# Altium integrated library Lattice FPGA MachXO2.IntLib: 444 symbols (part 6 of 39)
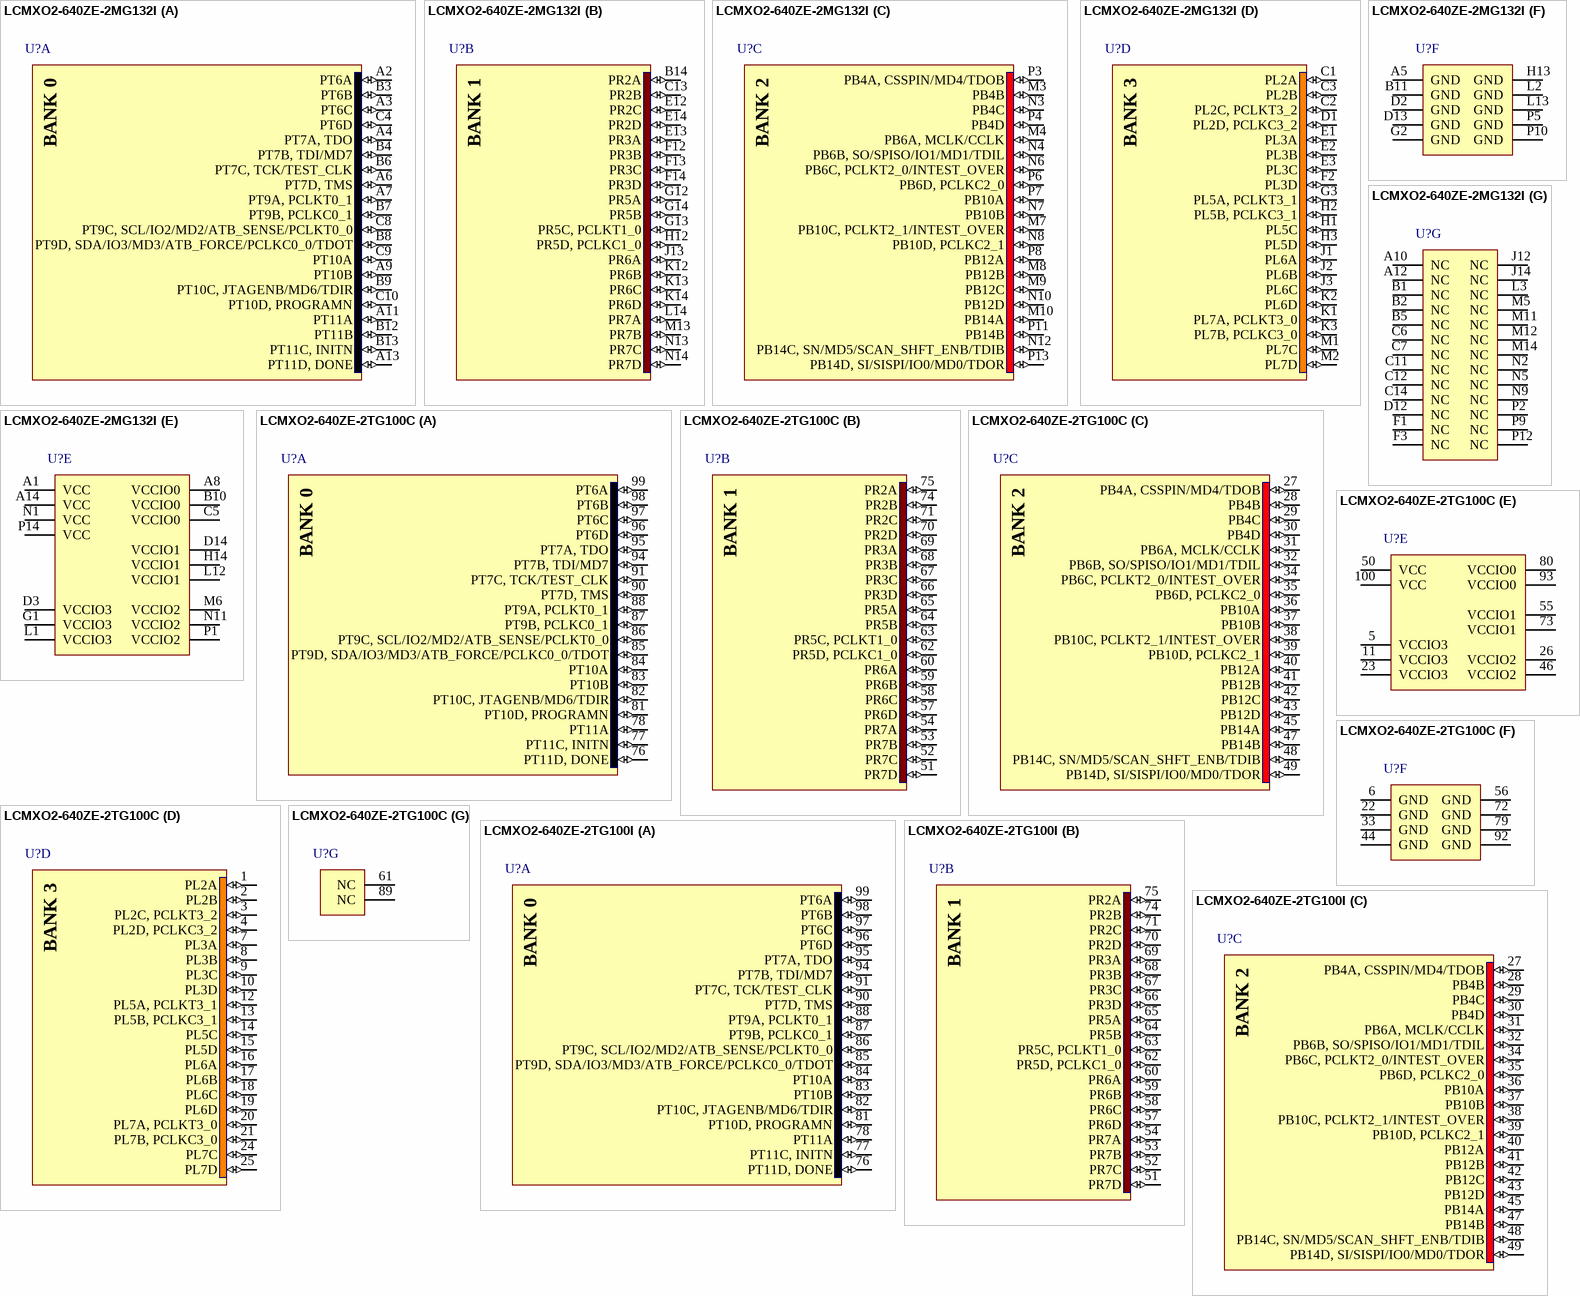
[diagram p426: symbols LCMXO2-640ZE-2MG132I to LCMXO2-640ZE-2TG100I]

## LCMXO2-640ZE-2TG100C
designator U?
MachXO2 Ultra Low Power CPLD with 640 LUTs, 1.2V, 100-pin TQFP, Speed Grade-2, Commercial Grade, Halogen Free (RoHS); DatasheetVersion: ver01.5, Aug-2011; PackageVersion: ver02.8, Jul-2011; PackageReference: TQFP100; PackageDescription: 100-Pin Thin Quad Flat Pack (TQFP100); Code_JEDEC: MS-026-BED; ComponentLink1Description: Manufacturer URL; ComponentLink1URL: http://www.latticesemi.com/; ComponentLink2Description: Datasheet; ComponentLink2URL: http://www.latticesemi.com/documents/DS1035.pdf; ComponentLink3Description: Package Specification; ComponentLink3URL: http://www.latticesemi.com/lit/docs/package/pkg.pdf
footprint TQFP100_N (Thin QFP, 100-Leads, Body 14x14mm, Pitch 0.5mm, IPC Medium Density)
footprint TQFP100_L (Thin QFP, 100-Leads, Body 14x14mm, Pitch 0.5mm, IPC High Density)
footprint TQFP100_M (Thin QFP, 100-Leads, Body 14x14mm, Pitch 0.5mm, IPC Low Density)
part A pins: 76 PT11D, DONE (io), 77 PT11C, INITN (io), 78 PT11A (io), 81 PT10D, PROGRAMN (io), 82 PT10C, JTAGENB/MD6/TDIR (io), 83 PT10B (io), 84 PT10A (io), 85 PT9D, SDA/IO3/MD3/ATB_FORCE/PCLKC0_0/TDOT (io), 86 PT9C, SCL/IO2/MD2/ATB_SENSE/PCLKT0_0 (io), 87 PT9B, PCLKC0_1 (io), 88 PT9A, PCLKT0_1 (io), 90 PT7D, TMS (io), 91 PT7C, TCK/TEST_CLK (io), 94 PT7B, TDI/MD7 (io), 95 PT7A, TDO (io), 96 PT6D (io), 97 PT6C (io), 98 PT6B (io), 99 PT6A (io)
part B pins: 51 PR7D (io), 52 PR7C (io), 53 PR7B (io), 54 PR7A (io), 57 PR6D (io), 58 PR6C (io), 59 PR6B (io), 60 PR6A (io), 62 PR5D, PCLKC1_0 (io), 63 PR5C, PCLKT1_0 (io), 64 PR5B (io), 65 PR5A (io), 66 PR3D (io), 67 PR3C (io), 68 PR3B (io), 69 PR3A (io), 70 PR2D (io), 71 PR2C (io), 74 PR2B (io), 75 PR2A (io)
part C pins: 27 PB4A, CSSPIN/MD4/TDOB (io), 28 PB4B (io), 29 PB4C (io), 30 PB4D (io), 31 PB6A, MCLK/CCLK (io), 32 PB6B, SO/SPISO/IO1/MD1/TDIL (io), 34 PB6C, PCLKT2_0/INTEST_OVER (io), 35 PB6D, PCLKC2_0 (io), 36 PB10A (io), 37 PB10B (io), 38 PB10C, PCLKT2_1/INTEST_OVER (io), 39 PB10D, PCLKC2_1 (io), 40 PB12A (io), 41 PB12B (io), 42 PB12C (io), 43 PB12D (io), 45 PB14A (io), 47 PB14B (io), 48 PB14C, SN/MD5/SCAN_SHFT_ENB/TDIB (io), 49 PB14D, SI/SISPI/IO0/MD0/TDOR (io)
part D pins: 1 PL2A (io), 2 PL2B (io), 3 PL2C, PCLKT3_2 (io), 4 PL2D, PCLKC3_2 (io), 7 PL3A (io), 8 PL3B (io), 9 PL3C (io), 10 PL3D (io), 12 PL5A, PCLKT3_1 (io), 13 PL5B, PCLKC3_1 (io), 14 PL5C (io), 15 PL5D (io), 16 PL6A (io), 17 PL6B (io), 18 PL6C (io), 19 PL6D (io), 20 PL7A, PCLKT3_0 (io), 21 PL7B, PCLKC3_0 (io), 24 PL7C (io), 25 PL7D (io)
part E pins: 5 VCCIO3 (power), 11 VCCIO3 (power), 23 VCCIO3 (power), 26 VCCIO2 (power), 46 VCCIO2 (power), 50 VCC (power), 55 VCCIO1 (power), 73 VCCIO1 (power), 80 VCCIO0 (power), 93 VCCIO0 (power), 100 VCC (power)
part F pins: 6 GND (power), 22 GND (power), 33 GND (power), 44 GND (power), 56 GND (power), 72 GND (power), 79 GND (power), 92 GND (power)
part G pins: 61 NC, 89 NC
part A text: BANK 0
part B text: BANK 1
part C text: BANK 2
part D text: BANK 3

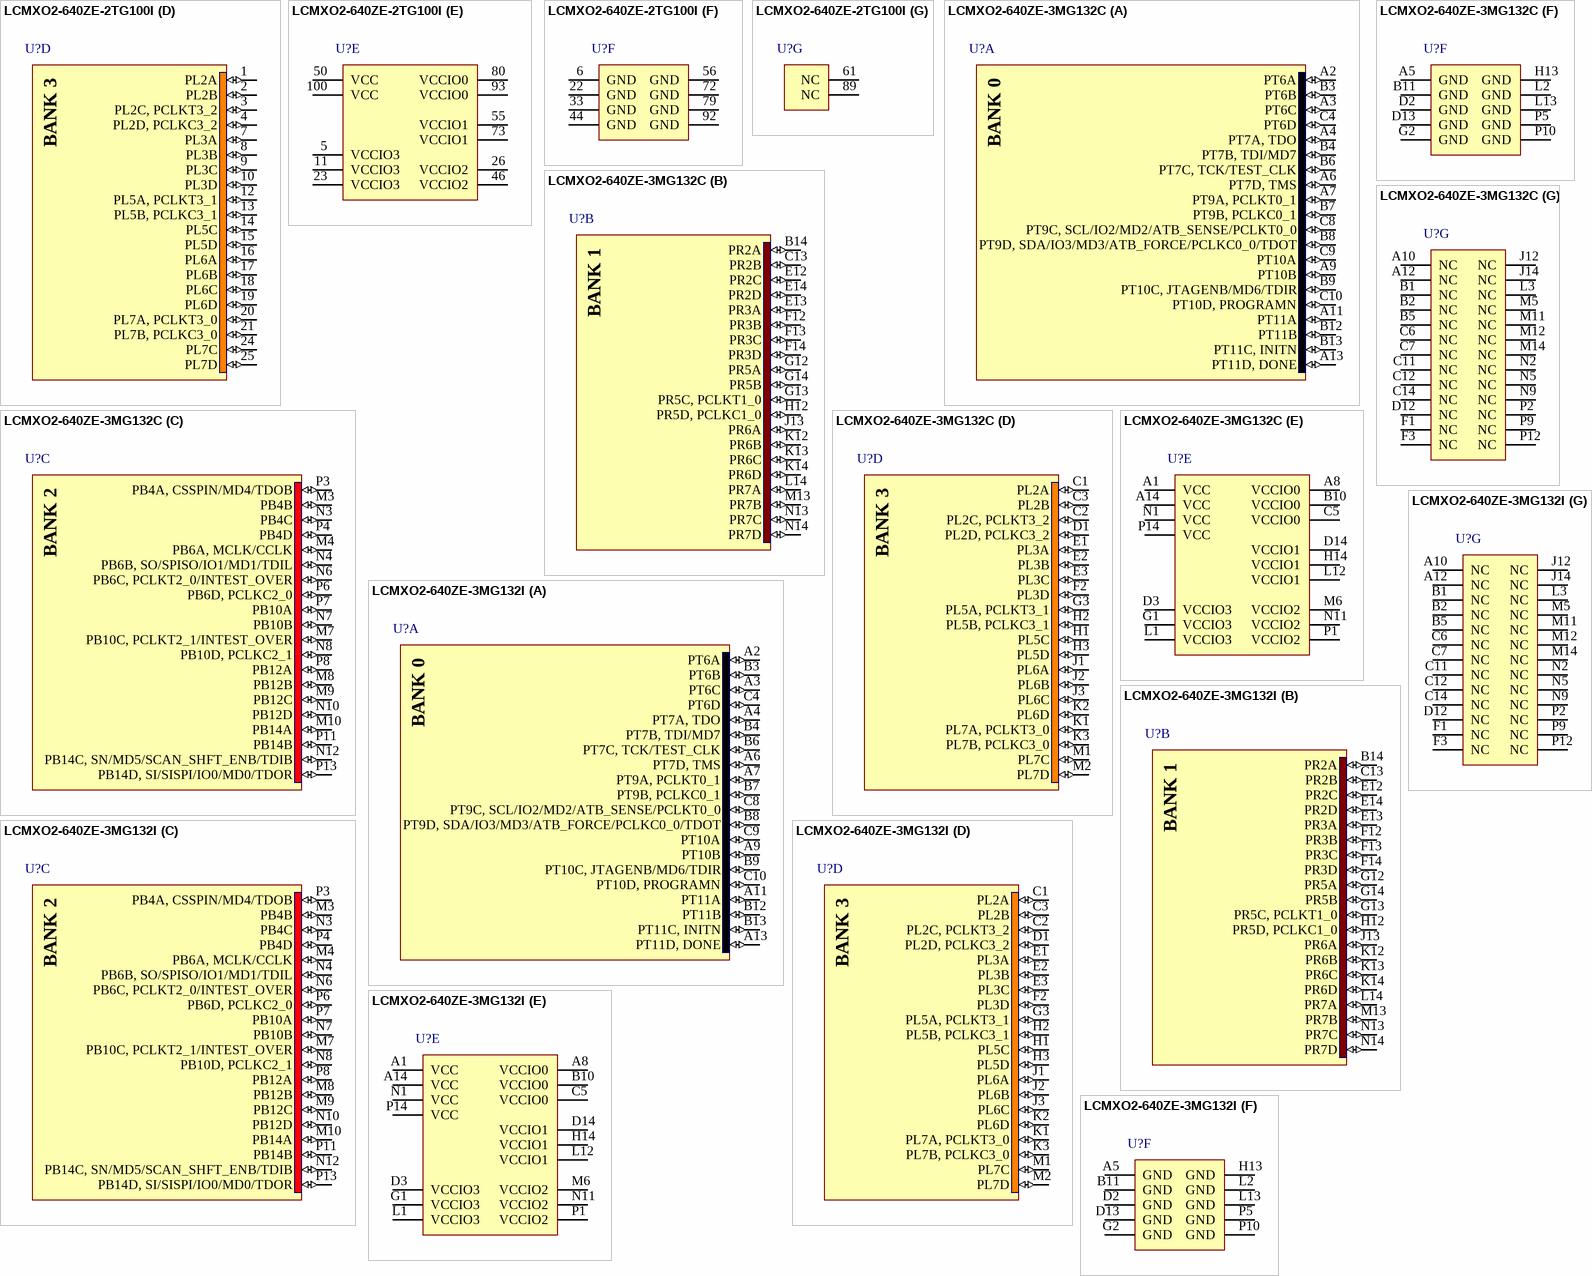
[diagram p22: symbols LCMXO2-640ZE-2TG100I to LCMXO2-640ZE-3MG132I]

## LCMXO2-640ZE-2TG100I
designator U?
MachXO2 Ultra Low Power CPLD with 640 LUTs, 1.2V, 100-pin TQFP, Speed Grade-2, Industrial Grade, Halogen Free (RoHS); DatasheetVersion: ver01.5, Aug-2011; PackageVersion: ver02.8, Jul-2011; PackageReference: TQFP100; PackageDescription: 100-Pin Thin Quad Flat Pack (TQFP100); Code_JEDEC: MS-026-BED; ComponentLink1Description: Manufacturer URL; ComponentLink1URL: http://www.latticesemi.com/; ComponentLink2Description: Datasheet; ComponentLink2URL: http://www.latticesemi.com/documents/DS1035.pdf; ComponentLink3Description: Package Specification; ComponentLink3URL: http://www.latticesemi.com/lit/docs/package/pkg.pdf
footprint TQFP100_N (Thin QFP, 100-Leads, Body 14x14mm, Pitch 0.5mm, IPC Medium Density)
footprint TQFP100_L (Thin QFP, 100-Leads, Body 14x14mm, Pitch 0.5mm, IPC High Density)
footprint TQFP100_M (Thin QFP, 100-Leads, Body 14x14mm, Pitch 0.5mm, IPC Low Density)
part A pins: 76 PT11D, DONE (io), 77 PT11C, INITN (io), 78 PT11A (io), 81 PT10D, PROGRAMN (io), 82 PT10C, JTAGENB/MD6/TDIR (io), 83 PT10B (io), 84 PT10A (io), 85 PT9D, SDA/IO3/MD3/ATB_FORCE/PCLKC0_0/TDOT (io), 86 PT9C, SCL/IO2/MD2/ATB_SENSE/PCLKT0_0 (io), 87 PT9B, PCLKC0_1 (io), 88 PT9A, PCLKT0_1 (io), 90 PT7D, TMS (io), 91 PT7C, TCK/TEST_CLK (io), 94 PT7B, TDI/MD7 (io), 95 PT7A, TDO (io), 96 PT6D (io), 97 PT6C (io), 98 PT6B (io), 99 PT6A (io)
part B pins: 51 PR7D (io), 52 PR7C (io), 53 PR7B (io), 54 PR7A (io), 57 PR6D (io), 58 PR6C (io), 59 PR6B (io), 60 PR6A (io), 62 PR5D, PCLKC1_0 (io), 63 PR5C, PCLKT1_0 (io), 64 PR5B (io), 65 PR5A (io), 66 PR3D (io), 67 PR3C (io), 68 PR3B (io), 69 PR3A (io), 70 PR2D (io), 71 PR2C (io), 74 PR2B (io), 75 PR2A (io)
part C pins: 27 PB4A, CSSPIN/MD4/TDOB (io), 28 PB4B (io), 29 PB4C (io), 30 PB4D (io), 31 PB6A, MCLK/CCLK (io), 32 PB6B, SO/SPISO/IO1/MD1/TDIL (io), 34 PB6C, PCLKT2_0/INTEST_OVER (io), 35 PB6D, PCLKC2_0 (io), 36 PB10A (io), 37 PB10B (io), 38 PB10C, PCLKT2_1/INTEST_OVER (io), 39 PB10D, PCLKC2_1 (io), 40 PB12A (io), 41 PB12B (io), 42 PB12C (io), 43 PB12D (io), 45 PB14A (io), 47 PB14B (io), 48 PB14C, SN/MD5/SCAN_SHFT_ENB/TDIB (io), 49 PB14D, SI/SISPI/IO0/MD0/TDOR (io)
part D pins: 1 PL2A (io), 2 PL2B (io), 3 PL2C, PCLKT3_2 (io), 4 PL2D, PCLKC3_2 (io), 7 PL3A (io), 8 PL3B (io), 9 PL3C (io), 10 PL3D (io), 12 PL5A, PCLKT3_1 (io), 13 PL5B, PCLKC3_1 (io), 14 PL5C (io), 15 PL5D (io), 16 PL6A (io), 17 PL6B (io), 18 PL6C (io), 19 PL6D (io), 20 PL7A, PCLKT3_0 (io), 21 PL7B, PCLKC3_0 (io), 24 PL7C (io), 25 PL7D (io)
part E pins: 5 VCCIO3 (power), 11 VCCIO3 (power), 23 VCCIO3 (power), 26 VCCIO2 (power), 46 VCCIO2 (power), 50 VCC (power), 55 VCCIO1 (power), 73 VCCIO1 (power), 80 VCCIO0 (power), 93 VCCIO0 (power), 100 VCC (power)
part F pins: 6 GND (power), 22 GND (power), 33 GND (power), 44 GND (power), 56 GND (power), 72 GND (power), 79 GND (power), 92 GND (power)
part G pins: 61 NC, 89 NC
part A text: BANK 0
part B text: BANK 1
part C text: BANK 2
part D text: BANK 3

## LCMXO2-640ZE-3MG132C
designator U?
MachXO2 Ultra Low Power CPLD with 640 LUTs, 1.2V, 132-pin csBGA, Speed Grade-3, Commercial Grade, Halogen Free (RoHS); DatasheetVersion: ver01.5, Aug-2011; PackageVersion: ver02.8, Jul-2011; PackageReference: csBGA132; PackageDescription: 132-Ball Chip Scale Ball Grid Array (csBGA132); ComponentLink1Description: Manufacturer URL; ComponentLink1URL: http://www.latticesemi.com/; ComponentLink2Description: Datasheet; ComponentLink2URL: http://www.latticesemi.com/documents/DS1035.pdf; ComponentLink3Description: Package Specification; ComponentLink3URL: http://www.latticesemi.com/lit/docs/package/pkg.pdf
footprint csBGA132 (BGA, 132-Leads, Body 8x8mm, Pitch 0.5mm)
part A pins: A2 PT6A (io), A3 PT6C (io), A4 PT7A, TDO (io), A6 PT7D, TMS (io), A7 PT9A, PCLKT0_1 (io), A9 PT10B (io), A11 PT11A (io), A13 PT11D, DONE (io), B3 PT6B (io), B4 PT7B, TDI/MD7 (io), B6 PT7C, TCK/TEST_CLK (io), B7 PT9B, PCLKC0_1 (io), B8 PT9D, SDA/IO3/MD3/ATB_FORCE/PCLKC0_0/TDOT (io), B9 PT10C, JTAGENB/MD6/TDIR (io), B12 PT11B (io), B13 PT11C, INITN (io), C4 PT6D (io), C8 PT9C, SCL/IO2/MD2/ATB_SENSE/PCLKT0_0 (io), C9 PT10A (io), C10 PT10D, PROGRAMN (io)
part B pins: B14 PR2A (io), C13 PR2B (io), E12 PR2C (io), E13 PR3A (io), E14 PR2D (io), F12 PR3B (io), F13 PR3C (io), F14 PR3D (io), G12 PR5A (io), G13 PR5C, PCLKT1_0 (io), G14 PR5B (io), H12 PR5D, PCLKC1_0 (io), J13 PR6A (io), K12 PR6B (io), K13 PR6C (io), K14 PR6D (io), L14 PR7A (io), M13 PR7B (io), N13 PR7C (io), N14 PR7D (io)
part C pins: M3 PB4B (io), M4 PB6A, MCLK/CCLK (io), M7 PB10C, PCLKT2_1/INTEST_OVER (io), M8 PB12B (io), M9 PB12C (io), M10 PB14A (io), N3 PB4C (io), N4 PB6B, SO/SPISO/IO1/MD1/TDIL (io), N6 PB6C, PCLKT2_0/INTEST_OVER (io), N7 PB10B (io), N8 PB10D, PCLKC2_1 (io), N10 PB12D (io), N12 PB14C, SN/MD5/SCAN_SHFT_ENB/TDIB (io), P3 PB4A, CSSPIN/MD4/TDOB (io), P4 PB4D (io), P6 PB6D, PCLKC2_0 (io), P7 PB10A (io), P8 PB12A (io), P11 PB14B (io), P13 PB14D, SI/SISPI/IO0/MD0/TDOR (io)
part D pins: C1 PL2A (io), C2 PL2C, PCLKT3_2 (io), C3 PL2B (io), D1 PL2D, PCLKC3_2 (io), E1 PL3A (io), E2 PL3B (io), E3 PL3C (io), F2 PL3D (io), G3 PL5A, PCLKT3_1 (io), H1 PL5C (io), H2 PL5B, PCLKC3_1 (io), H3 PL5D (io), J1 PL6A (io), J2 PL6B (io), J3 PL6C (io), K1 PL7A, PCLKT3_0 (io), K2 PL6D (io), K3 PL7B, PCLKC3_0 (io), M1 PL7C (io), M2 PL7D (io)
part E pins: A1 VCC (power), A8 VCCIO0 (power), A14 VCC (power), B10 VCCIO0 (power), C5 VCCIO0 (power), D3 VCCIO3 (power), D14 VCCIO1 (power), G1 VCCIO3 (power), H14 VCCIO1 (power), L1 VCCIO3 (power), L12 VCCIO1 (power), M6 VCCIO2 (power), N1 VCC (power), N11 VCCIO2 (power), P1 VCCIO2 (power), P14 VCC (power)
part F pins: A5 GND (power), B11 GND (power), D2 GND (power), D13 GND (power), G2 GND (power), H13 GND (power), L2 GND (power), L13 GND (power), P5 GND (power), P10 GND (power)
part G pins: A10 NC, A12 NC, B1 NC, B2 NC, B5 NC, C6 NC, C7 NC, C11 NC, C12 NC, C14 NC, D12 NC, F1 NC, F3 NC, J12 NC, J14 NC, L3 NC, M5 NC, M11 NC, M12 NC, M14 NC, N2 NC, N5 NC, N9 NC, P2 NC, P9 NC, P12 NC
part A text: BANK 0
part B text: BANK 1
part C text: BANK 2
part D text: BANK 3